# Altium footprint library RESISTOR.PcbLib: 4 footprints
Each footprint in its own frame and in the unit in brackets; x right, y up, seen from the top. Pads: shape width x height; smd on the part's side, far side on the other; paste and mask are expansions set on the pad; w line width, h text height; cw(c..) or ccw(c..) is an arc to the next point about the centre after c.
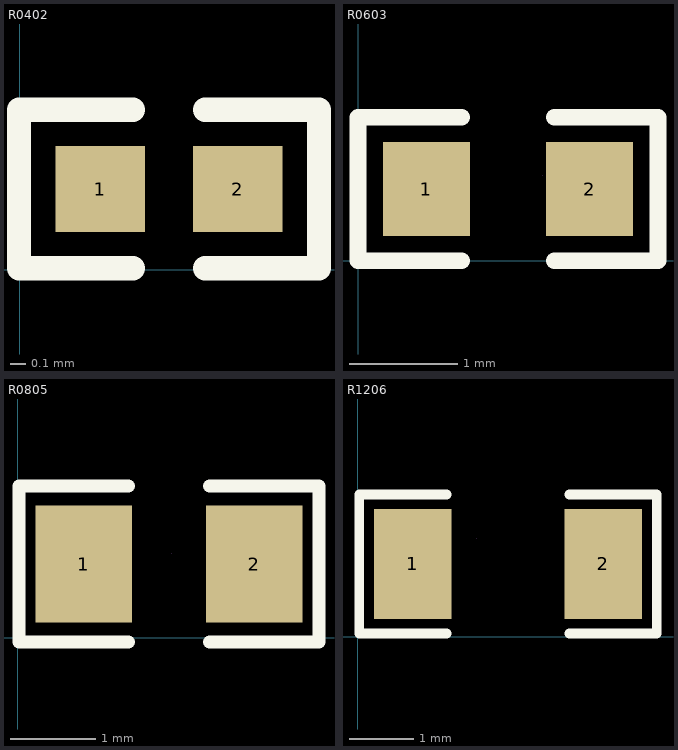
[diagram p0: the footprints below, top view; thin cyan lines are the x and y axes]

## R0402 [mil]
pads (2):
  rect 22.27x21.26 smd paste+0 mask+2: 1(20,20) 2(54.08,20)
Top Overlay:
  lines w6: 28.13,0.37 -0.14,0.37 -0.14,39.63 28.13,39.63 ; 45.95,0.37 74.22,0.37 74.22,39.63 45.95,39.63
Mechanical 15:
  lines w0.1: 49.53,24.99 49.55,25.01
3D body "R0402.step": height 13.78, standoff 0, extent 17.32,10.16 56.69,29.84

## R0603 [mil]
pads (2):
  rect 31.75x34.02 smd paste+0 mask+2: 1(24.88,26.01) 2(84.19,26.01)
Top Overlay:
  lines w6: 37.75,0 0,0 0,52.02 37.75,52.02 ; 71.31,0 109.06,0 109.06,52.02 71.31,52.02
Mechanical 15:
  lines w0.1: 67.02,31 67.04,31.02
3D body "R0603.step": height 17.72, standoff 0, extent 23.5,10.25 86.5,41.75

## R0805 [mil]
pads (2):
  rect 44.59x54.21 smd paste+0 mask+2: 1(30.63,34.11) 2(109.37,34.11)
Top Overlay:
  lines w6: 51.25,-2 0.66,-2 0.66,70.21 51.25,70.21 ; 88.75,-2 139.34,-2 139.34,70.21 88.75,70.21
Mechanical 15:
  lines w0.1: 71.16,39.1 71.18,39.12
3D body "R0805.step": height 15.75, standoff 0, extent 28.63,10.38 107.37,57.62

## R1206 [mil]
pads (2):
  rect 47.54x66.97 smd paste+0 mask+2: 1(33.78,44.48) 2(150.22,44.48)
Top Overlay:
  lines w6: 54.55,2 1.01,2 1.01,86.97 54.55,86.97 ; 129.45,2 182.99,2 182.99,86.97 129.45,86.97
Mechanical 15:
  lines w0.1: 72.99,59.98 73.01,60
3D body "R1206.step": height 19.69, standoff 0, extent 29.01,13.5 154.99,76.5